# Altium schematic symbol library LCDs.SchLib: 2 symbols
Pins are listed as number, name and electrical type; pins without a type are passive.

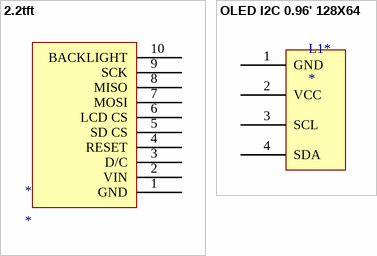
[diagram p0: symbols 2.2tft to OLED I2C 0.96' 128X64]

## 2.2tft
designator *
pins: 1 GND, 2 VIN, 3 D/C, 4 RESET, 5 SD CS, 6 LCD CS, 7 MOSI, 8 MISO, 9 SCK, 10 BACKLIGHT

## OLED I2C 0.96' 128X64
designator L1*
pins: 1 GND, 2 VCC, 3 SCL, 4 SDA